# EAGLE library part USBLC6-2SC6 (library USBLC6-2SC6)
TVS Diode Array Uni-Directional USBLC6-2SC6 17V, SOT-23 6-Pin Source: Datasheet <http://www.st.com/st-web-ui/static/active/en/resource/technical/document/datasheet/CD00050750.pdf>
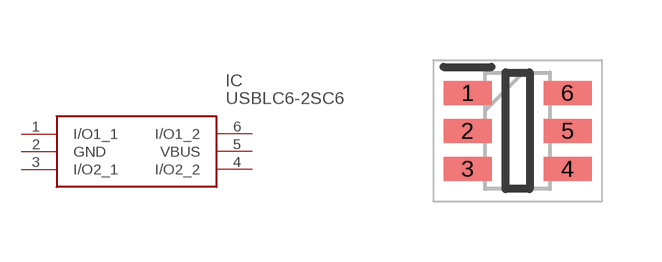
[diagram p0: symbol with the pads of SOT95P280X145-6N; footprint SOT95P280X145-6N]

Designator prefix IC

## USBLC6-2SC6 (Arrow_Part_Number: USBLC6-2SC6; Arrow_Price-Stock: https://www.arrow.com/en/products/usblc6-2sc6/stmicroelectronics; Description: TVS Diode Array Uni-Directional USBLC6-2SC6 17V, SOT-23 6-Pin; Height: 1.45mm; Manufacturer_Name: STMicroelectronics; Manufacturer_Part_Number: USBLC6-2SC6; Mouser_Part_Number: 511-USBLC6-2SC6; Mouser_Price-Stock: https://www.mouser.co.uk/ProductDetail/STMicroelectronics/USBLC6-2SC6/?qs=po45yt2pPpu%2FhNIlwQdTlg%3D%3D)  [SOT95P280X145-6N]
1  I/O1_1
2  GND
3  I/O2_1
4  I/O2_2
5  VBUS
6  I/O1_2

## Footprint SOT95P280X145-6N (pad centres in mm)
SOT23-6L_1
smd 1.2 x 0.6: 1 -1.25,0.95; 2 -1.25,0; 3 -1.25,-0.95; 4 1.25,-0.95; 5 1.25,0; 6 1.25,0.95